# EAGLE library part G65SC22P (library 65xxx)
California Micro Devices Version
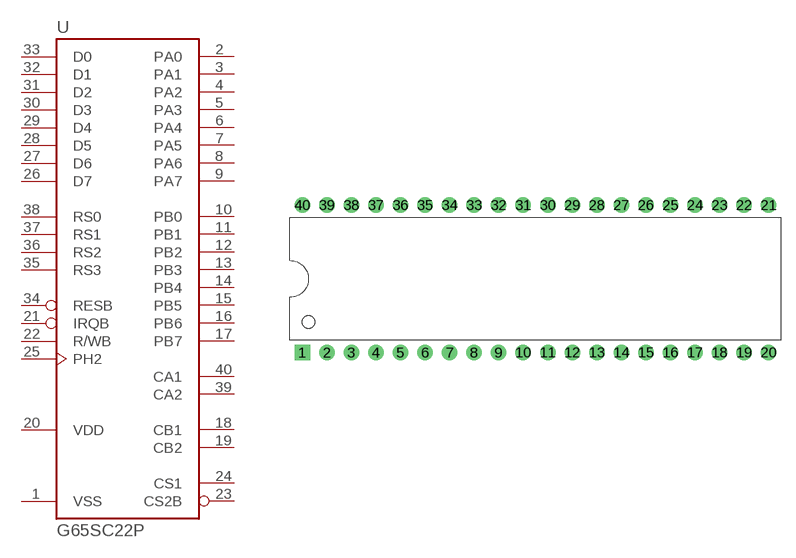
[diagram p2: symbol with the pads of DIP-40; footprint DIP-40]

Designator prefix U

## G65SC22P  [DIP-40]
1  VSS  sup
2  PA0
3  PA1
4  PA2
5  PA3
6  PA4
7  PA5
8  PA6
9  PA7
10  PB0
11  PB1
12  PB2
13  PB3
14  PB4
15  PB5
16  PB6
17  PB7
18  CB1
19  CB2
20  VDD  pwr
21  IRQB  out
22  R/WB  in
23  CS2B  in
24  CS1  in
25  PH2  in
26  D7
27  D6
28  D5
29  D4
30  D3
31  D2
32  D1
33  D0
34  RESB  in
35  RS3  in
36  RS2  in
37  RS1  in
38  RS0  in
39  CA2
40  CA1

## Footprint DIP-40 (pad centres in mm)
40-Pin DIP, 0.6" Wide
drill 0.889 pad 1.6 square: 1 -22.86,-7.62
drill 0.889 pad 1.6: 2 -20.32,-7.62; 3 -17.78,-7.62; 4 -15.24,-7.62; 5 -12.7,-7.62; 6 -10.16,-7.62; 7 -7.62,-7.62; 8 -5.08,-7.62; 9 -2.54,-7.62; 10 0,-7.62; 11 2.54,-7.62; 12 5.08,-7.62; 13 7.62,-7.62; 14 10.16,-7.62; 15 12.7,-7.62; 16 15.24,-7.62; 17 17.78,-7.62; 18 20.32,-7.62; 19 22.86,-7.62; 20 25.4,-7.62; 21 25.4,7.62; 22 22.86,7.62; 23 20.32,7.62; 24 17.78,7.62; 25 15.24,7.62; 26 12.7,7.62; 27 10.16,7.62; 28 7.62,7.62; 29 5.08,7.62; 30 2.54,7.62; 31 0,7.62; 32 -2.54,7.62; 33 -5.08,7.62; 34 -7.62,7.62; 35 -10.16,7.62; 36 -12.7,7.62; 37 -15.24,7.62; 38 -17.78,7.62; 39 -20.32,7.62; 40 -22.86,7.62